# Altium footprint library CAP_01uf.PcbLib: 1 footprints
Each footprint in its own frame and in the unit in brackets; x right, y up, seen from the top. Pads: shape width x height; smd on the part's side, far side on the other; paste and mask are expansions set on the pad; w line width, h text height; cw(c..) or ccw(c..) is an arc to the next point about the centre after c.
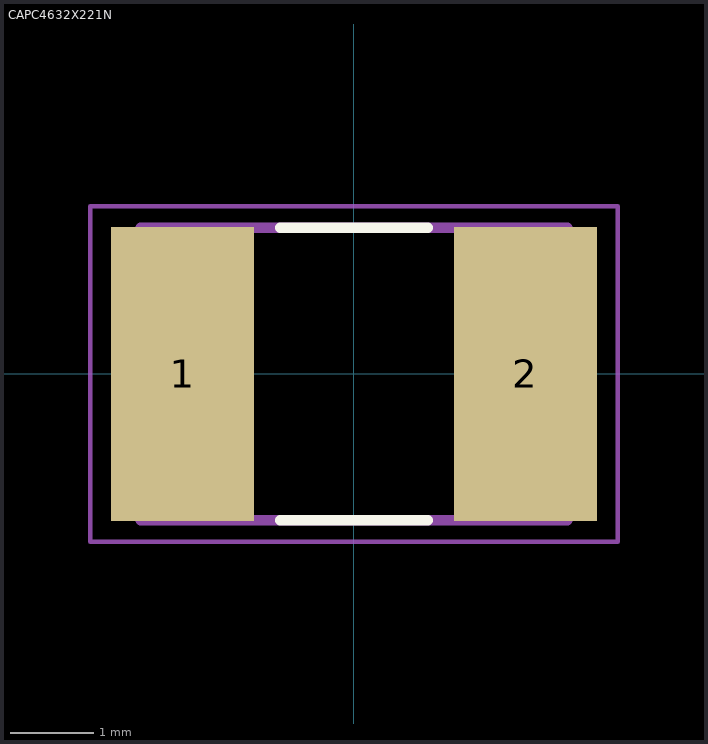
[diagram p0: the footprint, top view; thin cyan lines are the x and y axes]

## CAPC4632X221N [mm]
pads (2):
  rect 1.71x3.51 smd: 1(-2.05,0) 2(2.05,0)
Top Overlay:
  lines w0.127: -0.88,-1.75 0.88,-1.75 ; -0.88,1.75 0.88,1.75
Mechanical 13:
  lines w0.127: -2.55,-1.75 2.55,-1.75 2.55,1.75 -2.55,1.75 -2.55,-1.75
Mechanical 15:
  lines w0.05: -3.153,-2.005 3.153,-2.005 3.153,2.005 -3.153,2.005 -3.153,-2.005